# EAGLE library part RASPERRY_PICO_LUSIO (library RpiPico)
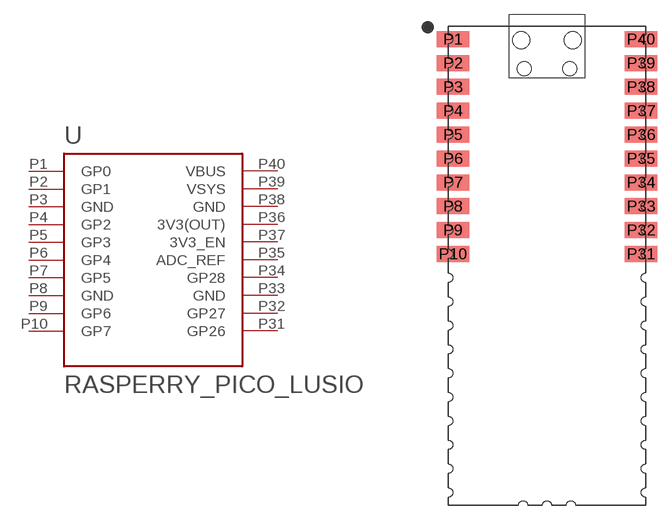
[diagram p3: symbol with the pads of PICO-PKG-LUSIO; footprint PICO-PKG-LUSIO]

Designator prefix -

## RASPERRY_PICO_LUSIO  [PICO-PKG-LUSIO]
P1  GP0
P2  GP1
P3  GND  pwr
P4  GP2
P5  GP3
P6  GP4
P7  GP5
P8  GND  pwr
P9  GP6
P10  GP7
P31  GP26
P32  GP27
P33  GND  pwr
P34  GP28
P35  ADC_REF  in
P36  3V3(OUT)  pwr
P37  3V3_EN  in
P38  GND  pwr
P39  VSYS  pwr
P40  VBUS  pwr

## Footprint PICO-PKG-LUSIO (pad centres in mm)
smd 3.5 x 1.7: P1 -10,24.13; P2 -10,21.59; P3 -10,19.05; P4 -10,16.51; P5 -10,13.97; P6 -10,11.43; P7 -10,8.89; P8 -10,6.35; P9 -10,3.81; P10 -10,1.27; P31 10,1.27; P32 10,3.81; P33 10,6.35; P34 10,8.89; P35 10,11.43; P36 10,13.97; P37 10,16.51; P38 10,19.05; P39 10,21.59; P40 10,24.13
hole 1.8 at -2.725,24
hole 1.8 at 2.725,24
hole 1.5 at -2.425,20.97
hole 1.5 at 2.425,20.97